# Altium integrated library SparkFun-Displays.IntLib: 11 symbols
Pins are listed as number, name and electrical type; pins without a type are passive.

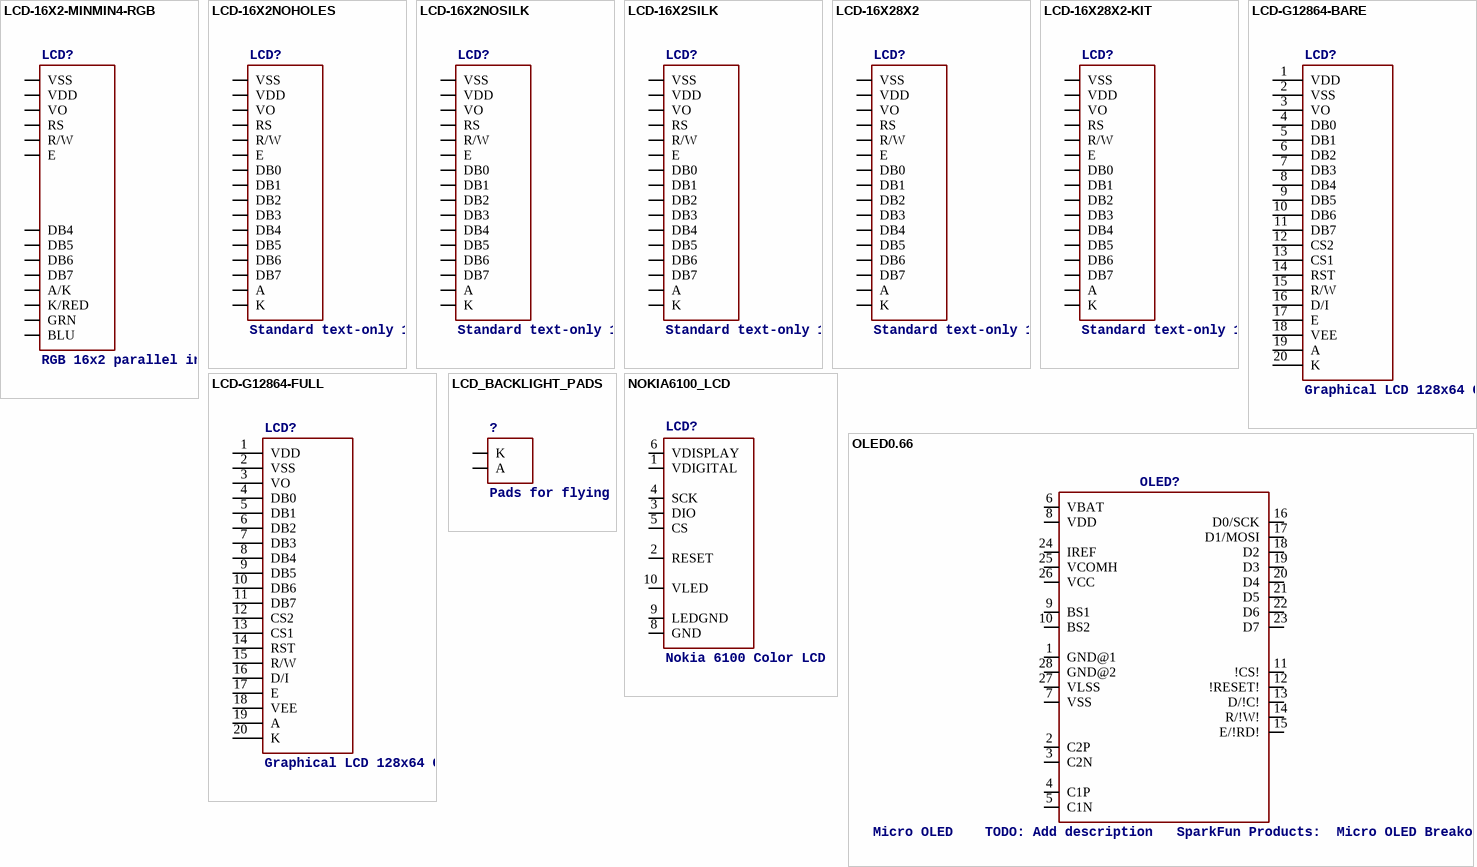
[diagram p0: symbols LCD-16X2-MINMIN4-RGB to OLED0.66]

## LCD-16X2-MINMIN4-RGB
designator LCD?, comment RGB 16x2 parallel input LCD, 4bit only    Basic 16 character by 2 line display.  Typically utilizes the extremely common HD44780 parallel interface chipset    SparkFun Products:  Basic 16x2 RGB
SF_ID: LCD-10862
footprint LCD-16X2_NOSILK-KIT-4BIT
pins: 1 VSS (power), 2 VDD (power), 3 VO, 4 RS, 5 R/W, 6 E, 11 DB4, 12 DB5, 13 DB6, 14 DB7, 15 A/K (power), 16 K/RED (power), 17 GRN (power), 18 BLU (power)

## LCD-16X2NOHOLES
designator LCD?, comment Standard text-only 16x2 parallel input LCD    Basic 16 character by 2 line display.  Typically utilizes the extremely common HD44780 parallel interface chipset    SparkFun Products:  Basic 16x2 Green  Basic 8x2 Green
SF_ID: LCD-00255
footprint LCD-16X2_NOHOLESNOSILK
pins: 1 VSS (power), 2 VDD (power), 3 VO, 4 RS, 5 R/W, 6 E, 7 DB0, 8 DB1, 9 DB2, 10 DB3, 11 DB4, 12 DB5, 13 DB6, 14 DB7, 15 A (power), 16 K (power)

## LCD-16X2NOSILK
designator LCD?, comment Standard text-only 16x2 parallel input LCD    Basic 16 character by 2 line display.  Typically utilizes the extremely common HD44780 parallel interface chipset    SparkFun Products:  Basic 16x2 Green  Basic 8x2 Green
SF_ID: LCD-00255
footprint LCD-16X2_NOSILK
pins: 1 VSS (power), 2 VDD (power), 3 VO, 4 RS, 5 R/W, 6 E, 7 DB0, 8 DB1, 9 DB2, 10 DB3, 11 DB4, 12 DB5, 13 DB6, 14 DB7, 15 A (power), 16 K (power)

## LCD-16X2SILK
designator LCD?, comment Standard text-only 16x2 parallel input LCD    Basic 16 character by 2 line display.  Typically utilizes the extremely common HD44780 parallel interface chipset    SparkFun Products:  Basic 16x2 Green  Basic 8x2 Green
SF_ID: LCD-00255
footprint LCD-16X2
pins: 1 VSS (power), 2 VDD (power), 3 VO, 4 RS, 5 R/W, 6 E, 7 DB0, 8 DB1, 9 DB2, 10 DB3, 11 DB4, 12 DB5, 13 DB6, 14 DB7, 15 A (power), 16 K (power)

## LCD-16X28X2
designator LCD?, comment Standard text-only 16x2 parallel input LCD    Basic 16 character by 2 line display.  Typically utilizes the extremely common HD44780 parallel interface chipset    SparkFun Products:  Basic 16x2 Green  Basic 8x2 Green
SF_ID: LCD-11122
footprint LCD-8X2
pins: 1 VSS (power), 2 VDD (power), 3 VO, 4 RS, 5 R/W, 6 E, 7 DB0, 8 DB1, 9 DB2, 10 DB3, 11 DB4, 12 DB5, 13 DB6, 14 DB7, 15 A (power), 16 K (power)

## LCD-16X28X2-KIT
designator LCD?, comment Standard text-only 16x2 parallel input LCD    Basic 16 character by 2 line display.  Typically utilizes the extremely common HD44780 parallel interface chipset    SparkFun Products:  Basic 16x2 Green  Basic 8x2 Green
SF_ID: LCD-11122
footprint LCD-8X2-KIT
pins: 1 VSS (power), 2 VDD (power), 3 VO, 4 RS, 5 R/W, 6 E, 7 DB0, 8 DB1, 9 DB2, 10 DB3, 11 DB4, 12 DB5, 13 DB6, 14 DB7, 15 A (power), 16 K (power)

## LCD-G12864-BARE
designator LCD?, comment Graphical LCD 128x64 Graphical LCD 644x128 with LED Backlight.  STN Type.   KS0108B parallel interface chipset.  Datasheet   SparkFun Products:  Graphic LCD 128x64
SF_ID: LCD-00710
footprint 1X20
pins: 1 VDD (power), 2 VSS (power), 3 VO, 4 DB0, 5 DB1, 6 DB2, 7 DB3, 8 DB4, 9 DB5, 10 DB6, 11 DB7, 12 CS2, 13 CS1, 14 RST, 15 R/W, 16 D/I, 17 E, 18 VEE, 19 A (power), 20 K (power)

## LCD-G12864-FULL
designator LCD?, comment Graphical LCD 128x64 Graphical LCD 644x128 with LED Backlight.  STN Type.   KS0108B parallel interface chipset.  Datasheet   SparkFun Products:  Graphic LCD 128x64
SF_ID: LCD-00710
footprint LCD-G12864
pins: 1 VDD (power), 2 VSS (power), 3 VO, 4 DB0, 5 DB1, 6 DB2, 7 DB3, 8 DB4, 9 DB5, 10 DB6, 11 DB7, 12 CS2, 13 CS1, 14 RST, 15 R/W, 16 D/I, 17 E, 18 VEE, 19 A (power), 20 K (power)

## LCD_BACKLIGHT_PADS
designator ?, comment Pads for flying backlight leads    Use as a place to tack down wires.    SparkFun Products:  sparkfun.com
footprint LCD_BACKLIGHT_PADS
pins: P$1 A, P$2 K

## NOKIA6100_LCD
designator LCD?, comment Nokia 6100 Color LCD    Previously used in production.    SparkFun Products:  128x128 Nokia Knock-Off (Retired)  Color LCD SMD connector
SF_ID: LCD-00570
footprint NOKIA6100_LCD
pins: 1 VDIGITAL, 2 RESET, 3 DIO, 4 SCK, 5 CS, 6 VDISPLAY, 8 GND, 9 LEDGND, 10 VLED

## OLED0.66
designator OLED?, comment Micro OLED    TODO: Add description   SparkFun Products:  Micro OLED Breakout
PROD_ID: LCD-12019
footprint OLED-0.66-64X48
pins: 1 GND@1, 2 C2P, 3 C2N, 4 C1P, 5 C1N, 6 VBAT, 7 VSS, 8 VDD, 9 BS1, 10 BS2, 11 !CS!, 12 !RESET!, 13 D/!C!, 14 R/!W!, 15 E/!RD!, 16 D0/SCK, 17 D1/MOSI, 18 D2, 19 D3, 20 D4, 21 D5, 22 D6, 23 D7, 24 IREF, 25 VCOMH, 26 VCC, 27 VLSS, 28 GND@2